# EAGLE library part LAN91C96 (library Digilent)
SMSC LAN91C96 Ethernet Controller
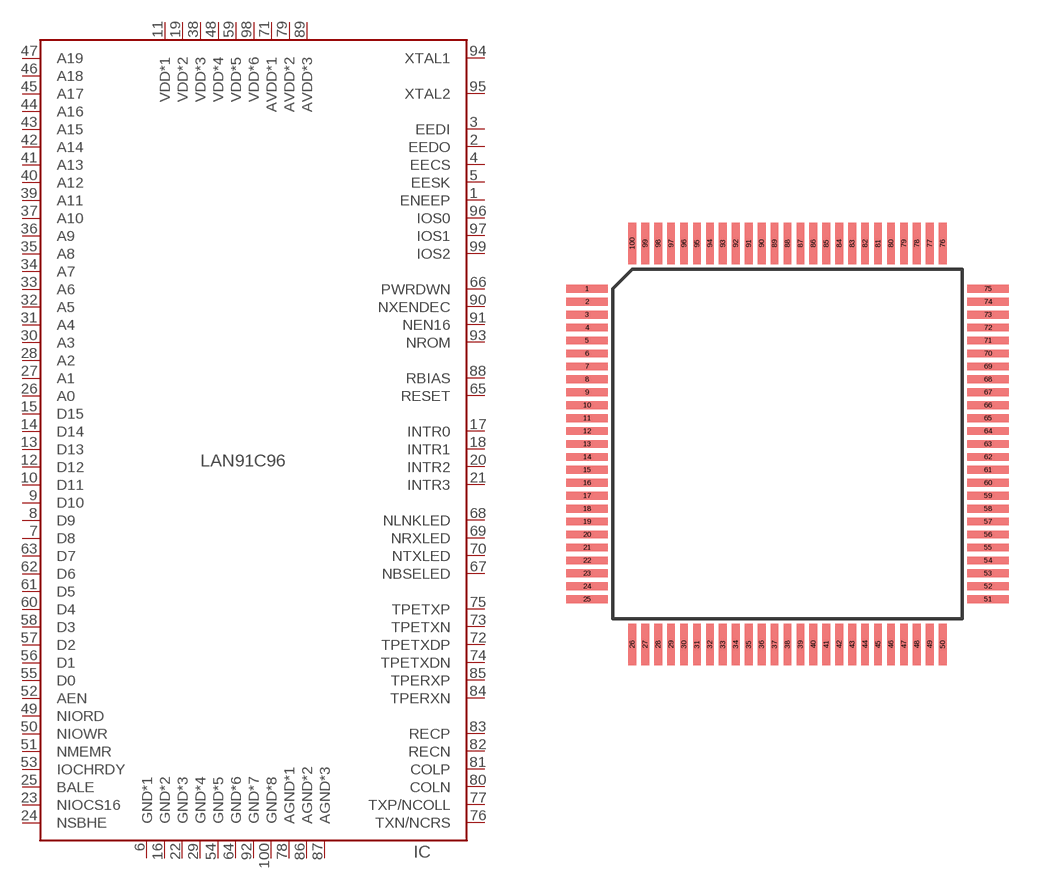
[diagram p49: symbol with the pads of TQFP100; footprint TQFP100]

Designator prefix IC

## LAN91C96-TQ100  [TQFP100]
1  ENEEP
2  EEDO
3  EEDI
4  EECS
5  EESK
6  GND*1  pwr
7  D8
8  D9
9  D10
10  D11
11  VDD*1  pwr
12  D12
13  D13
14  D14
15  D15
16  GND*2  pwr
17  INTR0
18  INTR1
19  VDD*2  pwr
20  INTR2
21  INTR3
22  GND*3  pwr
23  NIOCS16
24  NSBHE
25  BALE
26  A0
27  A1
28  A2
29  GND*4  pwr
30  A3
31  A4
32  A5
33  A6
34  A7
35  A8
36  A9
37  A10
38  VDD*3  pwr
39  A11
40  A12
41  A13
42  A14
43  A15
44  A16
45  A17
46  A18
47  A19
48  VDD*4  pwr
49  NIORD
50  NIOWR
51  NMEMR
52  AEN
53  IOCHRDY
54  GND*5  pwr
55  D0
56  D1
57  D2
58  D3
59  VDD*5  pwr
60  D4
61  D5
62  D6
63  D7
64  GND*6  pwr
65  RESET
66  PWRDWN
67  NBSELED
68  NLNKLED
69  NRXLED
70  NTXLED
71  AVDD*1  pwr
72  TPETXDP
73  TPETXN
74  TPETXDN
75  TPETXP
76  TXN/NCRS
77  TXP/NCOLL
78  AGND*1  pwr
79  AVDD*2  pwr
80  COLN
81  COLP
82  RECN
83  RECP
84  TPERXN
85  TPERXP
86  AGND*2  pwr
87  AGND*3  pwr
88  RBIAS
89  AVDD*3  pwr
90  NXENDEC
91  NEN16
92  GND*7  pwr
93  NROM
94  XTAL1
95  XTAL2
96  IOS0
97  IOS1
98  VDD*6  pwr
99  IOS2
100  GND*8  pwr

## Footprint TQFP100 (pad centres in mm)
TQFP 100 pin, 0.5mm pitch, 25 x 25 square
smd 1.6 x 0.3: 1 -7.75,6; 2 -7.75,5.5; 3 -7.75,5; 4 -7.75,4.5; 5 -7.75,4; 6 -7.75,3.5; 7 -7.75,3; 8 -7.75,2.5; 9 -7.75,2; 10 -7.75,1.5; 11 -7.75,1; 12 -7.75,0.5; 13 -7.75,0; 14 -7.75,-0.5; 15 -7.75,-1; 16 -7.75,-1.5; 17 -7.75,-2; 18 -7.75,-2.5; 19 -7.75,-3; 20 -7.75,-3.5; 21 -7.75,-4; 22 -7.75,-4.5; 23 -7.75,-5; 24 -7.75,-5.5; 25 -7.75,-6; 51 7.75,-6; 52 7.75,-5.5; 53 7.75,-5; 54 7.75,-4.5; 55 7.75,-4; 56 7.75,-3.5; 57 7.75,-3; 58 7.75,-2.5; 59 7.75,-2; 60 7.75,-1.5; 61 7.75,-1; 62 7.75,-0.5; 63 7.75,0; 64 7.75,0.5; 65 7.75,1; 66 7.75,1.5; 67 7.75,2; 68 7.75,2.5; 69 7.75,3; 70 7.75,3.5; 71 7.75,4; 72 7.75,4.5; 73 7.75,5; 74 7.75,5.5; 75 7.75,6
smd 0.3 x 1.6: 26 -6,-7.75; 27 -5.5,-7.75; 28 -5,-7.75; 29 -4.5,-7.75; 30 -4,-7.75; 31 -3.5,-7.75; 32 -3,-7.75; 33 -2.5,-7.75; 34 -2,-7.75; 35 -1.5,-7.75; 36 -1,-7.75; 37 -0.5,-7.75; 38 0,-7.75; 39 0.5,-7.75; 40 1,-7.75; 41 1.5,-7.75; 42 2,-7.75; 43 2.5,-7.75; 44 3,-7.75; 45 3.5,-7.75; 46 4,-7.75; 47 4.5,-7.75; 48 5,-7.75; 49 5.5,-7.75; 50 6,-7.75; 76 6,7.75; 77 5.5,7.75; 78 5,7.75; 79 4.5,7.75; 80 4,7.75; 81 3.5,7.75; 82 3,7.75; 83 2.5,7.75; 84 2,7.75; 85 1.5,7.75; 86 1,7.75; 87 0.5,7.75; 88 0,7.75; 89 -0.5,7.75; 90 -1,7.75; 91 -1.5,7.75; 92 -2,7.75; 93 -2.5,7.75; 94 -3,7.75; 95 -3.5,7.75; 96 -4,7.75; 97 -4.5,7.75; 98 -5,7.75; 99 -5.5,7.75; 100 -6,7.75